# EAGLE library part HRS-DF12-RCP-40 (library connectors)
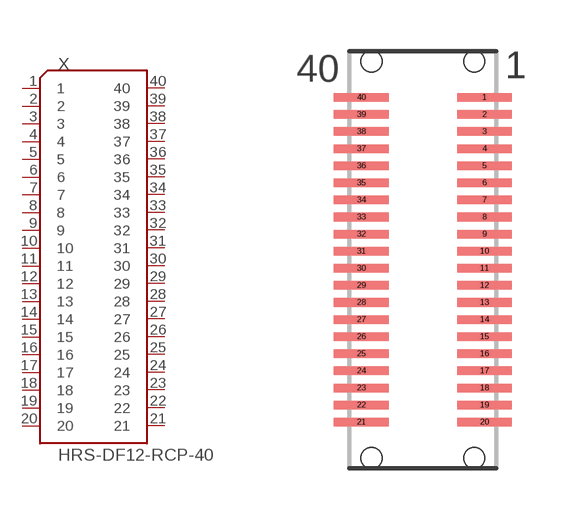
[diagram p0: symbol with the pads of HRS-DF12-RCP-40; footprint HRS-DF12-RCP-40]

Designator prefix X

## HRS-DF12-RCP-40  [HRS-DF12-RCP-40]
1  1
2  2
3  3
4  4
5  5
6  6
7  7
8  8
9  9
10  10
11  11
12  12
13  13
14  14
15  15
16  16
17  17
18  18
19  19
20  20
21  21
22  22
23  23
24  24
25  25
26  26
27  27
28  28
29  29
30  30
31  31
32  32
33  33
34  34
35  35
36  36
37  37
38  38
39  39
40  40

## Footprint HRS-DF12-RCP-40 (pad centres in mm)
smd 1.6 x 0.25: 1 1.8,4.75; 2 1.8,4.25; 3 1.8,3.75; 4 1.8,3.25; 5 1.8,2.75; 6 1.8,2.25; 7 1.8,1.75; 8 1.8,1.25; 9 1.8,0.75; 10 1.8,0.25; 11 1.8,-0.25; 12 1.8,-0.75; 13 1.8,-1.25; 14 1.8,-1.75; 15 1.8,-2.25; 16 1.8,-2.75; 17 1.8,-3.25; 18 1.8,-3.75; 19 1.8,-4.25; 20 1.8,-4.75; 21 -1.8,-4.75; 22 -1.8,-4.25; 23 -1.8,-3.75; 24 -1.8,-3.25; 25 -1.8,-2.75; 26 -1.8,-2.25; 27 -1.8,-1.75; 28 -1.8,-1.25; 29 -1.8,-0.75; 30 -1.8,-0.25; 31 -1.8,0.25; 32 -1.8,0.75; 33 -1.8,1.25; 34 -1.8,1.75; 35 -1.8,2.25; 36 -1.8,2.75; 37 -1.8,3.25; 38 -1.8,3.75; 39 -1.8,4.25; 40 -1.8,4.75
hole 0.6 at -1.5,5.8
hole 0.6 at 1.5,5.8
hole 0.6 at 1.5,-5.8
hole 0.6 at -1.5,-5.8